# Altium footprint library PcbLib1.PcbLib: 16 footprints
Each footprint in its own frame and in the unit in brackets; x right, y up, seen from the top. Pads: shape width x height; smd on the part's side, far side on the other; paste and mask are expansions set on the pad; w line width, h text height; cw(c..) or ccw(c..) is an arc to the next point about the centre after c.
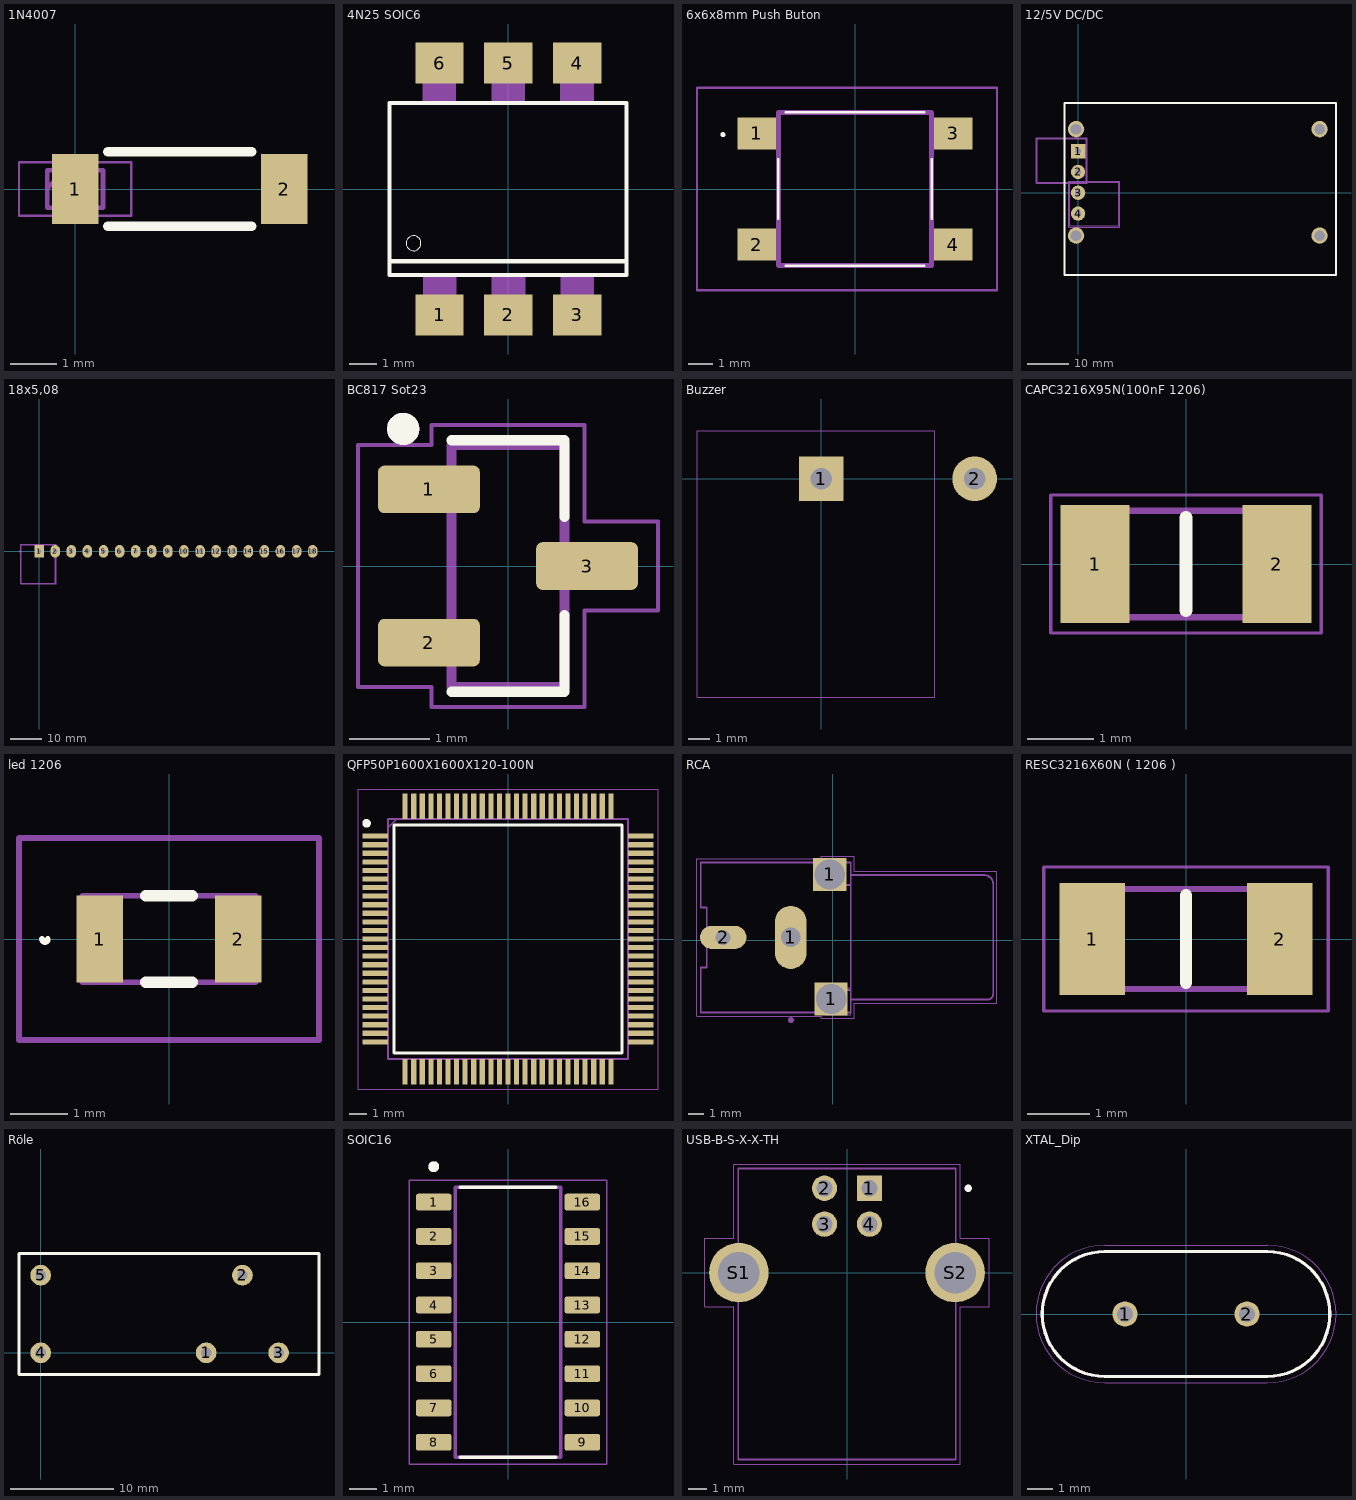
[diagram p0: the footprints below, top view; thin cyan lines are the x and y axes]

## 1N4007 [mm]
pads (2):
  rect 1x1.5 smd: 1(0,0) 2(4.5,0)
Top Overlay:
  lines w0.2: 0.7,-0.8 3.8,-0.8 ; 0.7,0.8 3.8,0.8
Mechanical 13:
  lines w0.1: -0.6,0.015 -0.215,0.4 ; -0.6,-0.4 -0.6,0.4 0.6,0.4 0.6,-0.4 -0.6,-0.4
Mechanical 15:
  lines w0.05: -1.21,-0.575 -1.21,0.575 1.21,0.575 1.21,-0.575 -1.21,-0.575
3D body "B340LB-13-F (1).STEP": height 0, standoff -2.5, extent -0.447,-1.9 4.848,1.72

## 4N25 SOIC6 [mm]
pads (6):
  rect 1.78x1.52 smd: 1(-2.54,-4.645) 2(0,-4.645) 3(2.54,-4.645) 4(2.54,4.645) 5(0,4.645) 6(-2.54,4.645)
Top Overlay:
  circle w0: c-3.5,-2 r0.276
  lines w0.152: -4.285,-2.664 4.36,-2.664 ; 4.36,-2.664 4.36,3.18 -4.385,3.18 -4.385,-3.18 4.36,-3.18 4.36,-2.664
Mechanical 13:
  region: -1.92,-4.951 -3.146,-4.951 -3.146,-3.2 -1.92,-3.2
  region: 0.62,-4.953 -0.605,-4.953 -0.605,-3.2 0.62,-3.2
  region: 3.16,-4.959 1.939,-4.959 1.939,-3.2 3.16,-3.2
  region: 3.145,3.202 1.921,3.202 1.921,4.95 3.145,4.95
  region: 0.605,3.203 -0.621,3.203 -0.621,4.95 0.605,4.95
  region: -1.935,3.203 -3.163,3.203 -3.163,4.95 -1.935,4.95
3D body "4N25SM.STEP": height 4.99, standoff -0.09, extent -4.155,-4.583 4.355,4.583

## 6x6x8mm Push Buton [mm]
pads (4):
  rect 1.55x1.3 smd: 1(-3.975,2.25) 2(-3.975,-2.25) 3(3.975,2.25) 4(3.975,-2.25)
Top Overlay:
  lines w0.1: -3.1,-1.2 -3.1,1.2 ; -2.8,-3.1 2.8,-3.1 ; -2.8,3.1 2.8,3.1 ; 3.1,-1.2 3.1,1.2 ; -5.4,2.2 cw(c-5.35,2.2) -5.3,2.2 cw(c-5.35,2.2) -5.4,2.2
Mechanical 13:
  lines w0.2: -3.1,-3.1 -3.1,3.1 3.1,3.1 3.1,-3.1 -3.1,-3.1
Mechanical 15:
  lines w0.1: -6.4,-4.1 -6.4,4.1 5.75,4.1 5.75,-4.1 -6.4,-4.1
3D body "430182070816.stp": height 5, standoff 0, extent -4.5,-3.1 4.5,3.1

## 12/5V DC/DC [mm]
pads (8):
  rect 3.5x3.5 hole 1.5: 1(0,10.16)
  round 3.5 hole 1.5: 2(0,5.08) 3(0,0) 4(0,-5.08)
  round 4 hole 2.6: ""(-0.5,-10.46) ""(-0.5,15.54) ""(59,-10.46) ""(59,15.54)
Top Overlay:
  lines w0.5: -3.303,-20.088 -3.303,21.912 ; -3.2,-20.075 62.8,-20.075 ; -3.2,21.925 62.8,21.925 ; 63,-20.075 63,21.925
Mechanical 13:
  circle w0.2: c-0.131,13.882 r0.1
  circle w0.2: c0.057,-8.802 r0.1
  lines w0.127: -10.037,2.54 -10.037,13.2 1.963,13.2 1.963,2.54 -10.037,2.54 ; -2.037,-8.12 9.963,-8.12 9.963,2.54 -2.037,2.54 -2.037,-8.12
Mechanical 15:
  lines w0.05: -10.287,2.29 -10.287,13.45 2.213,13.45 2.213,2.29 -10.287,2.29 ; -2.287,-8.37 10.213,-8.37 10.213,2.79 -2.287,2.79 -2.287,-8.37

## 18x5,08 [mm]
pads (18):
  rect 3x4 hole 1.5 square: 1(0,0)
  oval 3x4 hole 1.5 square: 2(5.08,0) 3(10.16,0) 4(15.24,0) 5(20.32,0) 6(25.4,0) 7(30.48,0) 8(35.56,0) 9(40.64,0) 10(45.72,0) 11(50.8,0) 12(55.88,0) 13(60.96,0) 14(66.04,0) 15(71.12,0) 16(76.2,0) 17(81.28,0) 18(86.36,0)
Mechanical 13:
  circle w0.2: c-6.262,-0.094 r0.1
  lines w0.127: -5.58,-10 5.08,-10 5.08,2 -5.58,2 -5.58,-10
Mechanical 15:
  lines w0.05: -5.83,-10.25 5.33,-10.25 5.33,2.25 -5.83,2.25 -5.83,-10.25

## BC817 Sot23 [mm]
pads (3):
  rrect25% 1.26x0.59 smd: 1(-0.98,0.95) 2(-0.98,-0.95) 3(0.98,0)
Top Overlay:
  circle w0.2: c-1.3,1.7 r0.1
  lines w0.127: -0.7,-1.559 0.7,-1.559 0.7,-0.609 ; -0.7,1.559 0.7,1.559 0.7,0.609
Mechanical 13:
  circle w0.2: c-1.3,1.7 r0.1
  lines w0.127: -0.7,-1.5 -0.7,1.5 0.7,1.5 0.7,-1.5 -0.7,-1.5
Mechanical 15:
  lines w0.05: -1.86,-1.5 -1.86,1.5 -0.95,1.5 -0.95,1.75 0.95,1.75 0.95,0.55 1.86,0.55 1.86,-0.55 0.95,-0.55 0.95,-1.75 -0.95,-1.75 -0.95,-1.5 -1.86,-1.5
3D body "BC817-40,215.stp": height 0.91, standoff -0.04, extent -1.1,-1.45 1.301,1.45

## Buzzer [mm]
pads (2):
  rect 2.1x2.1 hole 1: 1(0,0)
  round 2.1 hole 1: 2(7.2,0)
Mechanical 15:
  lines w0.05: -5.83,-10.25 5.33,-10.25 5.33,2.25 -5.83,2.25 -5.83,-10.25
3D body "AI-1223-TWT-12V-R--3DModel-STEP-1.STEP": height 9.55, standoff -6, extent -2.5,-5.8 10.94,6.2

## CAPC3216X95N(100nF 1206) [mm]
pads (2):
  rect 1.04x1.78 smd: 1(-1.37,0) 2(1.37,0)
Top Overlay:
  lines w0.2: 0,-0.7 0,0.7
Mechanical 13:
  lines w0.1: -1.6,-0.8 1.6,-0.8 1.6,0.8 -1.6,0.8 -1.6,-0.8
Mechanical 15:
  lines w0.05: -2.04,-1.04 2.04,-1.04 2.04,1.04 -2.04,1.04 -2.04,-1.04
3D body "GRM319F51H104ZA01D.stp": height 0.95, standoff 0, extent -1.6,-0.8 1.6,0.8

## led 1206 [mm]
pads (2):
  rect 0.8x1.5 smd: 1(-1.2,0) 2(1.2,0)
Top Overlay:
  lines w0.1: -2.2,0 ccw(c-2.15,0) -2.1,0
  lines w0.2: -0.4,-0.75 0.4,-0.75 ; -0.4,0.75 0.4,0.75
Mechanical 13:
  lines w0.1: -1.5,-0.75 -1.5,0.75 1.5,0.75 1.5,-0.75 -1.5,-0.75
Mechanical 15:
  lines w0.1: -2.6,-1.75 -2.6,1.75 2.6,1.75 2.6,-1.75 -2.6,-1.75
3D body "15412085A9000.stp": height 1.21, standoff 0, extent -1.5,-0.75 1.5,0.75

## QFP50P1600X1600X120-100N [mm]
pads (100):
  rect 1.5x0.3 smd: 1(-7.75,6) 2(-7.75,5.5) 3(-7.75,5) 4(-7.75,4.5) 5(-7.75,4) 6(-7.75,3.5) 7(-7.75,3) 8(-7.75,2.5) 9(-7.75,2) 10(-7.75,1.5) 11(-7.75,1) 12(-7.75,0.5) 13(-7.75,0) 14(-7.75,-0.5) 15(-7.75,-1) 16(-7.75,-1.5) 17(-7.75,-2) 18(-7.75,-2.5) 19(-7.75,-3) 20(-7.75,-3.5) 21(-7.75,-4) 22(-7.75,-4.5) 23(-7.75,-5) 24(-7.75,-5.5) 25(-7.75,-6) 51(7.75,-6) 52(7.75,-5.5) 53(7.75,-5) 54(7.75,-4.5) 55(7.75,-4) 56(7.75,-3.5) 57(7.75,-3) 58(7.75,-2.5) 59(7.75,-2) 60(7.75,-1.5) 61(7.75,-1) 62(7.75,-0.5) 63(7.75,0) 64(7.75,0.5) 65(7.75,1) 66(7.75,1.5) 67(7.75,2) 68(7.75,2.5) 69(7.75,3) 70(7.75,3.5) 71(7.75,4) 72(7.75,4.5) 73(7.75,5) 74(7.75,5.5) 75(7.75,6)
  rect 0.3x1.5 smd: 26(-6,-7.75) 27(-5.5,-7.75) 28(-5,-7.75) 29(-4.5,-7.75) 30(-4,-7.75) 31(-3.5,-7.75) 32(-3,-7.75) 33(-2.5,-7.75) 34(-2,-7.75) 35(-1.5,-7.75) 36(-1,-7.75) 37(-0.5,-7.75) 38(0,-7.75) 39(0.5,-7.75) 40(1,-7.75) 41(1.5,-7.75) 42(2,-7.75) 43(2.5,-7.75) 44(3,-7.75) 45(3.5,-7.75) 46(4,-7.75) 47(4.5,-7.75) 48(5,-7.75) 49(5.5,-7.75) 50(6,-7.75) 76(6,7.75) 77(5.5,7.75) 78(5,7.75) 79(4.5,7.75) 80(4,7.75) 81(3.5,7.75) 82(3,7.75) 83(2.5,7.75) 84(2,7.75) 85(1.5,7.75) 86(1,7.75) 87(0.5,7.75) 88(0,7.75) 89(-0.5,7.75) 90(-1,7.75) 91(-1.5,7.75) 92(-2,7.75) 93(-2.5,7.75) 94(-3,7.75) 95(-3.5,7.75) 96(-4,7.75) 97(-4.5,7.75) 98(-5,7.75) 99(-5.5,7.75) 100(-6,7.75)
Top Overlay:
  circle w0.25: c-8.25,6.75 r0.125
  lines w0.2: -6.65,-6.65 -6.65,6.65 6.65,6.65 6.65,-6.65 -6.65,-6.65
Mechanical 13:
  lines w0.1: -7,6.5 -6.5,7 ; -7,-7 -7,7 7,7 7,-7 -7,-7
Mechanical 15:
  lines w0.05: -8.75,-8.75 -8.75,8.75 8.75,8.75 8.75,-8.75 -8.75,-8.75
3D body "ATMEGA2560-16AU.stp": height 1.2, standoff 0, extent -8,-8 8,8

## RCA [mm]
pads (4):
  oval 2.1x4.2 hole 1.3 square: 1(-2.8,0.2)
  rect 2.2x2.2 hole 2 square: 1(-0.2,4.4) 1(-0.1,-3.9)
  oval 3.1x1.55 hole 1 square: 2(-7.3,0.2)
Mechanical 1:
  lines w0.001: -0.5,-4.95 1.2,-4.95 1.2,-3.15 -0.5,-3.15 -0.5,-4.95
Mechanical 13:
  circle w0.2: c-2.79,-5.313 r0.1
  lines w0.127: -0.3,3.7 1.2,3.7 ; -0.3,3.725 -0.3,5.2 ; -0.3,-4.8 -0.3,-3.3 1.2,-3.3 ; -0.3,-4.8 -8.8,-4.8 -8.8,-1.8 -8.4,-1.8 -8.4,2.2 -8.8,2.2 -8.8,5.2 -0.3,5.2 ; -0.3,-4.8 1.2,-4.8 1.2,-3.95 ; -0.3,5.2 1.2,5.2 1.2,4.35 ; 1.2,-3.95 10.31,-3.95 ccw(c10.31,-3.56) 10.7,-3.56 10.7,3.76 ccw(c10.11,3.76) 10.11,4.35 1.2,4.35 ; 1.2,-3.95 1.2,-3.3 ; 1.2,-3.3 1.2,3.7 ; 1.2,3.7 1.2,4.35
Mechanical 15:
  lines w0.05: -9.05,-5.05 -9.05,5.45 -0.75,5.45 -0.75,5.6 1.45,5.6 1.45,4.6 10.95,4.6 10.95,-4.2 1.45,-4.2 1.45,-5.2 -0.75,-5.2 -0.75,-5.05 -9.05,-5.05

## RESC3216X60N ( 1206 ) [mm]
pads (2):
  rect 1.05x1.8 smd: 1(-1.5,0) 2(1.5,0)
Top Overlay:
  lines w0.2: 0,-0.7 0,0.7
Mechanical 13:
  lines w0.1: -1.575,-0.8 1.575,-0.8 1.575,0.8 -1.575,0.8 -1.575,-0.8
Mechanical 15:
  lines w0.05: -2.275,-1.15 2.275,-1.15 2.275,1.15 -2.275,1.15 -2.275,-1.15
3D body "CRCW120610K0DHEAP.stp": height 0.6, standoff 0, extent -1.575,-0.8 1.575,0.8

## Röle [mm]
pads (5):
  round 2 hole 1: 1(16,0) 2(19.5,7.5) 3(23,0) 4(0,0) 5(0,7.5)
Top Overlay:
  lines w0.254: -2.1,-2.1 -2.1,9.6 26.9,9.6 26.9,-2.1 -2.1,-2.1
3D body: height 20, standoff 0.25, extent -2.1,-2.1 26.9,9.6

## SOIC16 [mm]
pads (16):
  rrect25% 1.31x0.62 smd: 1(-2.75,4.445) 2(-2.75,3.175) 3(-2.75,1.905) 4(-2.75,0.635) 5(-2.75,-0.635) 6(-2.75,-1.905) 7(-2.75,-3.175) 8(-2.75,-4.445) 9(2.75,-4.445) 10(2.75,-3.175) 11(2.75,-1.905) 12(2.75,-0.635) 13(2.75,0.635) 14(2.75,1.905) 15(2.75,3.175) 16(2.75,4.445)
Top Overlay:
  circle w0.2: c-2.75,5.755 r0.1
  lines w0.127: -1.775,-5 1.775,-5 ; -1.775,5 1.775,5
Mechanical 13:
  circle w0.2: c-2.75,5.755 r0.1
  lines w0.127: -1.95,-5 1.95,-5 1.95,5 -1.95,5 -1.95,-5
Mechanical 15:
  lines w0.05: -3.655,-5.25 3.655,-5.25 3.655,5.25 -3.655,5.25 -3.655,-5.25
3D body "Ch340G--3DModel-STEP-56544.STEP": height 1.8, standoff 0, extent -3,-5 3,5

## USB-B-S-X-X-TH [mm]
pads (6):
  rect 1.408x1.408 hole 0.9: 1(1.25,4.7)
  round 1.408 hole 0.9: 2(-1.25,4.7) 3(-1.25,2.7) 4(1.25,2.7)
  round 3.316 hole 2.3: S1(-6.02,0) S2(6.02,0)
Top Overlay:
  circle w0.2: c6.75,4.7 r0.1
Mechanical 13:
  circle w0.2: c6.75,4.7 r0.1
  lines w0.1: -6.05,-10.4 -6.05,5.8 6.05,5.8 6.05,-10.4 -6.05,-10.4
Mechanical 15:
  lines w0.05: -7.93,-1.91 -7.93,1.91 -6.3,1.91 -6.3,6.05 6.3,6.05 6.3,1.91 7.93,1.91 7.93,-1.91 6.3,-1.91 6.3,-10.65 -6.3,-10.65 -6.3,-1.91 -7.93,-1.91

## XTAL_Dip [mm]
pads (2):
  round 1.007 hole 0.657: 1(-2.44,0) 2(2.44,0)
Top Overlay:
  lines w0.127: -5.75,0 cw(c-3.25,0) -3.25,2.5 3.25,2.5 cw(c3.25,0) 5.75,0 cw(c3.25,0) 3.25,-2.5 -3.25,-2.5 cw(c-3.25,0) -5.75,0
Mechanical 13:
  lines w0.127: -5.75,0 cw(c-3.25,0) -3.25,2.5 3.25,2.5 cw(c3.25,0) 5.75,0 cw(c3.25,0) 3.25,-2.5 -3.25,-2.5 cw(c-3.25,0) -5.75,0
Mechanical 15:
  lines w0.05: -6,0 cw(c-3.25,0) -3.25,2.75 3.25,2.75 cw(c3.25,0) 6,0 cw(c3.25,0) 3.25,-2.75 -3.25,-2.75 cw(c-3.25,0) -6,0
3D body "step_temp.STEP": height 3.65, standoff -5.35, extent -5.75,-2.5 5.75,2.5